# EAGLE library part ADC-MAX1286 (library ds_ic_peripherals)
150ksps, 12-Bit, 2-Channel Single-Ended, and 1-Channel True-Differential ADCs
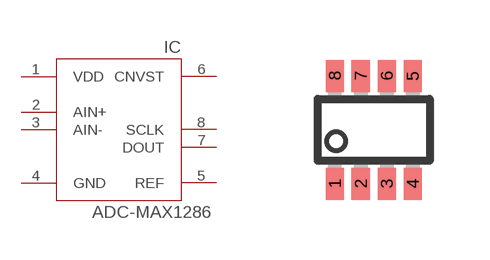
[diagram p17: symbol with the pads of SOT23-8; footprint SOT23-8]

Designator prefix IC

## ADC-MAX1286  [SOT23-8]
1  VDD
2  AIN+
3  AIN-
4  GND
5  REF
6  CNVST
7  DOUT
8  SCLK

## Footprint SOT23-8 (pad centres in mm)
smd 0.45 x 0.8: 1 -0.975,-1.35; 2 -0.325,-1.35; 3 0.325,-1.35; 4 0.975,-1.35; 5 0.975,1.35; 6 0.325,1.35; 7 -0.325,1.35; 8 -0.975,1.35